# EAGLE library part GROVE_DC&DC (library seeed_parts)
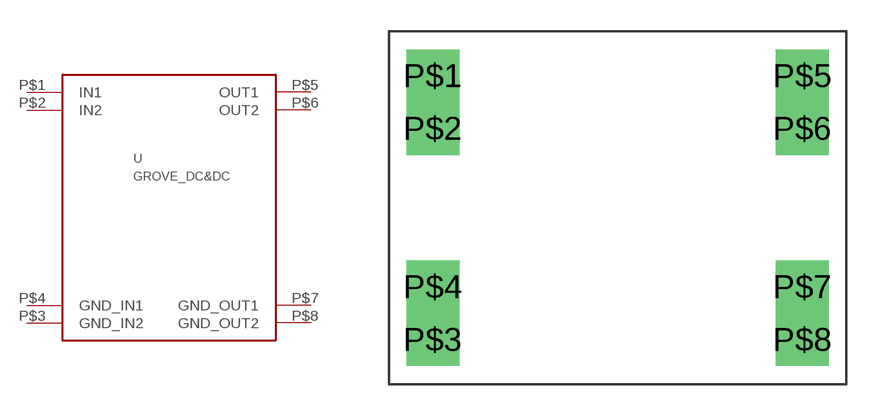
[diagram p0: symbol with the pads of GROVE_DC&DC; footprint GROVE_DC&DC]

Designator prefix U

## GROVE_DC&DC  [GROVE_DC&DC]
P$1  IN1  pwr
P$2  IN2  pwr
P$3  GND_IN2  pwr
P$4  GND_IN1  pwr
P$5  OUT1  pwr
P$6  OUT2  pwr
P$7  GND_OUT1  pwr
P$8  GND_OUT2  pwr

## Footprint GROVE_DC&DC (pad centres in mm)
drill 1 pad 2.54 square: P$1 -8.89,6.35; P$2 -8.89,3.81; P$3 -8.89,-6.35; P$4 -8.89,-3.81; P$5 8.89,6.35; P$6 8.89,3.81; P$7 8.89,-3.81; P$8 8.89,-6.35